# EAGLE library part WE-RJ45_7499151120 (library WE-RJ45_LAN)
WE-RJ45 LAN Transformer Characteristics RJ45 Connector with integrated transformer / common mode choke Power over Ethernet up to 50 Watt and speeds up to 10 Gbit/s Available in SMD, THT and THT with USB Compliant with standards: IEEE 802.3u, IEEE 802.3ab, IEEE 802.3af, IEEE 802.3at, IEEE 802.3an and upcoming IEE 802.3bt Applications Suitable for industrial temperatures from –40 °C up to +85 °C Compatible to Industrial Ethernet systems like EtherCAT or Profinet Compliant with most IC’s for Ethernet applications such as Microchip, Texas Instruments, Broadcom, Linear Technology Hubs, Routers, Switches, IP cameras, IoT applications Details see: www.we-online.com/components/products/WE-LAN-RJ45 Updated by Ella 2025-03-11 2025 (C) Würth Elektronik
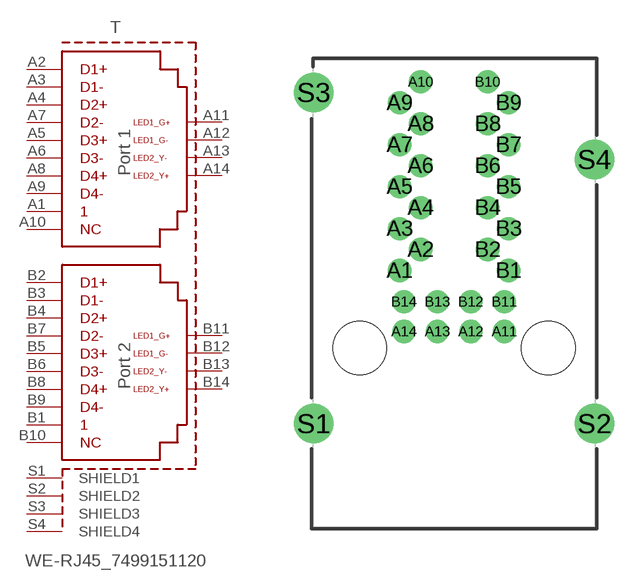
[diagram p70: symbol with the pads of 7499151120; footprint 7499151120]

Designator prefix T

## WE-RJ45_7499151120 (DATA-RATE: 1000BASE-T; DATASHEET: https://www.we-online.com/redexpert/spec/7499151120?ae; IMPROVED-CMRR: No; LED: yellow-green; MOUNT: THT; OPERATING-TEMPERATURE: -40 °C up to +85 °C; PART-NUMBER: 7499151120; PHY-CHIP-MODE: current; POE: non-PoE; PORTS: 2x1; SHIELD-TABS: Yes; TAB: Up/Down; USB: No; VALUE: 7499151120)  [7499151120]
A1  A1  pas
A2  A2  pas
A3  A3  pas
A4  A4  pas
A5  A5  pas
A6  A6  pas
A7  A7  pas
A8  A8  pas
A9  A9  pas
A10  A10  pas
A11  A11  pas
A12  A12  pas
A13  A13  pas
A14  A14  pas
B1  B1  pas
B2  B2  pas
B3  B3  pas
B4  B4  pas
B5  B5  pas
B6  B6  pas
B7  B7  pas
B8  B8  pas
B9  B9  pas
B10  B10  pas
B11  B11  pas
B12  B12  pas
B13  B13  pas
B14  B14  pas
S1  SHIELD1  pas
S2  SHIELD2  pas
S3  SHIELD3  pas
S4  SHIELD4  pas

## Footprint 7499151120 (pad centres in mm)
WE-RJ45 LAN Transformer 1000BASE-T, Ports:2x1, Tab:Up/Down
drill 0.9: A1 -3.3,4.7; A2 -2.03,5.97; A3 -3.3,7.24; A4 -2.03,8.51; A5 -3.3,9.78; A6 -2.03,11.05; A7 -3.3,12.32; A8 -2.03,13.59; A9 -3.3,14.86; A10 -2.03,16.13; A11 3.045,1.01; A12 1.015,1.01; A13 -1.015,1.01; A14 -3.045,1.01; B1 3.3,4.7; B2 2.03,5.97; B3 3.3,7.24; B4 2.03,8.51; B5 3.3,9.78; B6 2.03,11.05; B7 3.3,12.32; B8 2.03,13.59; B9 3.3,14.86; B10 2.03,16.13; B11 3.045,2.81; B12 1.015,2.81; B13 -1.015,2.81; B14 -3.045,2.81
drill 1.6: S1 -8.505,-4.57; S2 8.505,-4.57; S3 -8.505,15.49; S4 8.505,11.43
hole 3.25 at 5.715,0
hole 3.25 at -5.715,0